# Altium footprint library con-garry.PCBLIB: 24 footprints (part 2 of 2)
Each footprint in its own frame and in the unit in brackets; x right, y up, seen from the top. Pads: shape width x height; smd on the part's side, far side on the other; paste and mask are expansions set on the pad; w line width, h text height; cw(c..) or ccw(c..) is an arc to the next point about the centre after c.
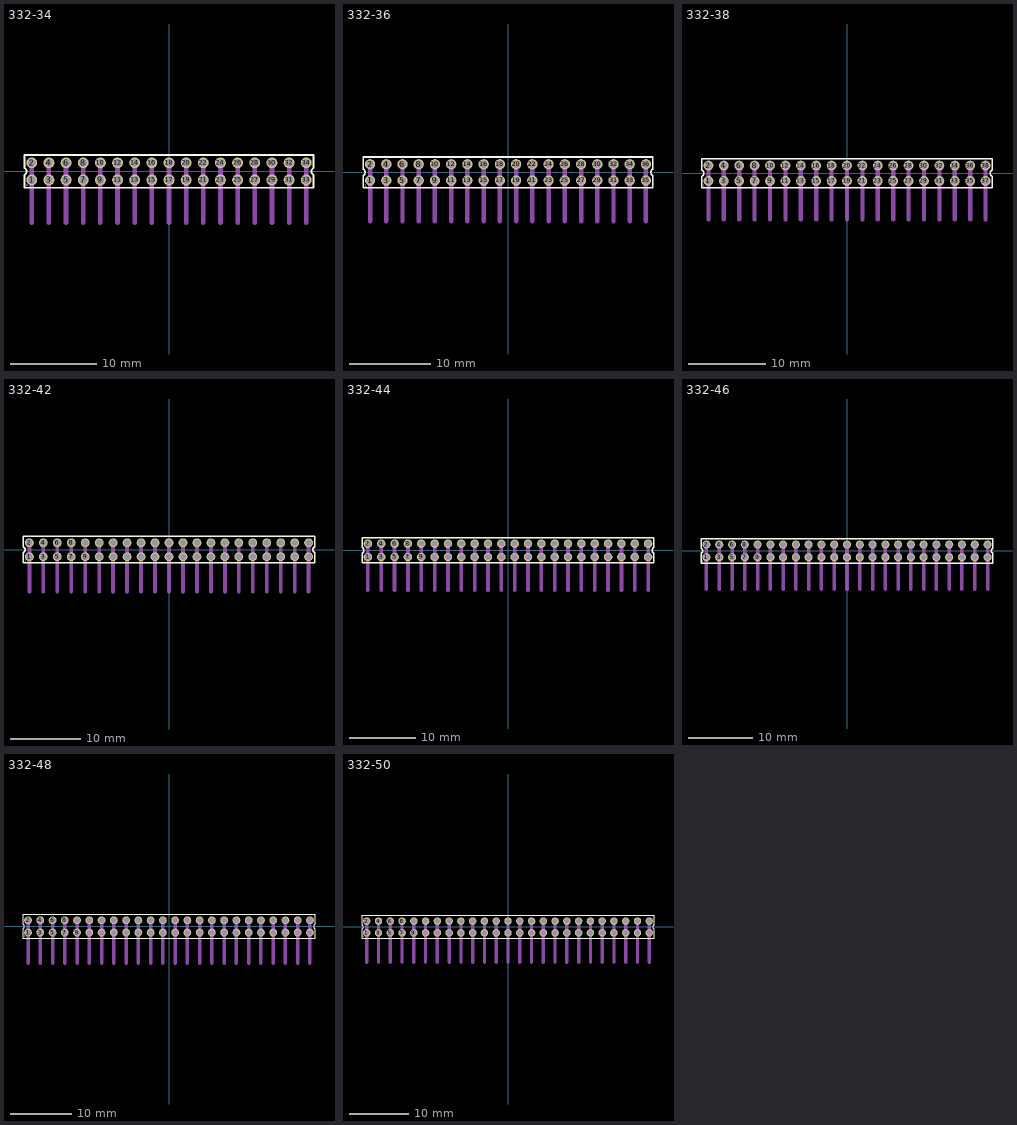
[diagram p1: the footprints below, top view; thin cyan lines are the x and y axes]

## 332-34 [mm]
pads (34):
  round 1.27 hole 0.9: 1(-16,-1) 2(-16,1) 3(-14,-1) 4(-14,1) 5(-12,-1) 6(-12,1) 7(-10,-1) 8(-10,1) 9(-8,-1) 10(-8,1) 11(-6,-1) 12(-6,1) 13(-4,-1) 14(-4,1) 15(-2,-1) 16(-2,1) 17(0,-1) 18(0,1) 19(2,-1) 20(2,1) 21(4,-1) 22(4,1) 23(6,-1) 24(6,1) 25(8,-1) 26(8,1) 27(10,-1) 28(10,1) 29(12,-1) 30(12,1) 31(14,-1) 32(14,1) 33(16,-1) 34(16,1)
Top Overlay:
  lines w0.203: -16.85,-1.9 16.85,-1.9 16.85,-0.4 cw(c17.04,0) 16.85,0.4 16.85,1.9 -16.85,1.9 -16.85,0.4 cw(c-17.04,0) -16.85,-0.4 -16.85,-1.9
  text "1" at -16.65,-1.75 h0.26
Mechanical 16:
  rectangle: -16.25,-1.25 -15.75,-0.75
  rectangle: -16.25,0.75 -15.75,1.25
  rectangle: -14.25,-1.25 -13.75,-0.75
  rectangle: -14.25,0.75 -13.75,1.25
  rectangle: -12.25,-1.25 -11.75,-0.75
  rectangle: -12.25,0.75 -11.75,1.25
  rectangle: -10.25,-1.25 -9.75,-0.75
  rectangle: -10.25,0.75 -9.75,1.25
  rectangle: -8.25,-1.25 -7.75,-0.75
  rectangle: -8.25,0.75 -7.75,1.25
  rectangle: -6.25,-1.25 -5.75,-0.75
  rectangle: -6.25,0.75 -5.75,1.25
  rectangle: -4.25,-1.25 -3.75,-0.75
  rectangle: -4.25,0.75 -3.75,1.25
  rectangle: -2.25,-1.25 -1.75,-0.75
  rectangle: -2.25,0.75 -1.75,1.25
  rectangle: -0.25,-1.25 0.25,-0.75
  rectangle: -0.25,0.75 0.25,1.25
  rectangle: 1.75,-1.25 2.25,-0.75
  rectangle: 1.75,0.75 2.25,1.25
  rectangle: 3.75,-1.25 4.25,-0.75
  rectangle: 3.75,0.75 4.25,1.25
  rectangle: 5.75,-1.25 6.25,-0.75
  rectangle: 5.75,0.75 6.25,1.25
  rectangle: 7.75,-1.25 8.25,-0.75
  rectangle: 7.75,0.75 8.25,1.25
  rectangle: 9.75,-1.25 10.25,-0.75
  rectangle: 9.75,0.75 10.25,1.25
  rectangle: 11.75,-1.25 12.25,-0.75
  rectangle: 11.75,0.75 12.25,1.25
  rectangle: 13.75,-1.25 14.25,-0.75
  rectangle: 13.75,0.75 14.25,1.25
  rectangle: 15.75,-1.25 16.25,-0.75
  rectangle: 15.75,0.75 16.25,1.25
  lines w0.55: -16,-6 -16,1 ; -14,-6 -14,1 ; -12,-6 -12,1 ; -10,-6 -10,1 ; -8,-6 -8,1 ; -6,-6 -6,1 ; -4,-6 -4,1 ; -2,-6 -2,1 ; 0,-6 0,1 ; 2,-6 2,1 ; 4,-6 4,1 ; 6,-6 6,1 ; 8,-6 8,1 ; 10,-6 10,1 ; 12,-6 12,1 ; 14,-6 14,1 ; 16,-6 16,1

## 332-36 [mm]
pads (36):
  round 1.27 hole 0.9: 1(-17,-1) 2(-17,1) 3(-15,-1) 4(-15,1) 5(-13,-1) 6(-13,1) 7(-11,-1) 8(-11,1) 9(-9,-1) 10(-9,1) 11(-7,-1) 12(-7,1) 13(-5,-1) 14(-5,1) 15(-3,-1) 16(-3,1) 17(-1,-1) 18(-1,1) 19(1,-1) 20(1,1) 21(3,-1) 22(3,1) 23(5,-1) 24(5,1) 25(7,-1) 26(7,1) 27(9,-1) 28(9,1) 29(11,-1) 30(11,1) 31(13,-1) 32(13,1) 33(15,-1) 34(15,1) 35(17,-1) 36(17,1)
Top Overlay:
  lines w0.203: -17.85,-1.9 17.85,-1.9 17.85,-0.4 cw(c18.04,0) 17.85,0.4 17.85,1.9 -17.85,1.9 -17.85,0.4 cw(c-18.04,0) -17.85,-0.4 -17.85,-1.9
  text "1" at -17.65,-1.75 h0.26
Mechanical 16:
  rectangle: -17.25,-1.25 -16.75,-0.75
  rectangle: -17.25,0.75 -16.75,1.25
  rectangle: -15.25,-1.25 -14.75,-0.75
  rectangle: -15.25,0.75 -14.75,1.25
  rectangle: -13.25,-1.25 -12.75,-0.75
  rectangle: -13.25,0.75 -12.75,1.25
  rectangle: -11.25,-1.25 -10.75,-0.75
  rectangle: -11.25,0.75 -10.75,1.25
  rectangle: -9.25,-1.25 -8.75,-0.75
  rectangle: -9.25,0.75 -8.75,1.25
  rectangle: -7.25,-1.25 -6.75,-0.75
  rectangle: -7.25,0.75 -6.75,1.25
  rectangle: -5.25,-1.25 -4.75,-0.75
  rectangle: -5.25,0.75 -4.75,1.25
  rectangle: -3.25,-1.25 -2.75,-0.75
  rectangle: -3.25,0.75 -2.75,1.25
  rectangle: -1.25,-1.25 -0.75,-0.75
  rectangle: -1.25,0.75 -0.75,1.25
  rectangle: 0.75,-1.25 1.25,-0.75
  rectangle: 0.75,0.75 1.25,1.25
  rectangle: 2.75,-1.25 3.25,-0.75
  rectangle: 2.75,0.75 3.25,1.25
  rectangle: 4.75,-1.25 5.25,-0.75
  rectangle: 4.75,0.75 5.25,1.25
  rectangle: 6.75,-1.25 7.25,-0.75
  rectangle: 6.75,0.75 7.25,1.25
  rectangle: 8.75,-1.25 9.25,-0.75
  rectangle: 8.75,0.75 9.25,1.25
  rectangle: 10.75,-1.25 11.25,-0.75
  rectangle: 10.75,0.75 11.25,1.25
  rectangle: 12.75,-1.25 13.25,-0.75
  rectangle: 12.75,0.75 13.25,1.25
  rectangle: 14.75,-1.25 15.25,-0.75
  rectangle: 14.75,0.75 15.25,1.25
  rectangle: 16.75,-1.25 17.25,-0.75
  rectangle: 16.75,0.75 17.25,1.25
  lines w0.55: -17,-6 -17,1 ; -15,-6 -15,1 ; -13,-6 -13,1 ; -11,-6 -11,1 ; -9,-6 -9,1 ; -7,-6 -7,1 ; -5,-6 -5,1 ; -3,-6 -3,1 ; -1,-6 -1,1 ; 1,-6 1,1 ; 3,-6 3,1 ; 5,-6 5,1 ; 7,-6 7,1 ; 9,-6 9,1 ; 11,-6 11,1 ; 13,-6 13,1 ; 15,-6 15,1 ; 17,-6 17,1

## 332-38 [mm]
pads (38):
  round 1.27 hole 0.9: 1(-18,-1) 2(-18,1) 3(-16,-1) 4(-16,1) 5(-14,-1) 6(-14,1) 7(-12,-1) 8(-12,1) 9(-10,-1) 10(-10,1) 11(-8,-1) 12(-8,1) 13(-6,-1) 14(-6,1) 15(-4,-1) 16(-4,1) 17(-2,-1) 18(-2,1) 19(0,-1) 20(0,1) 21(2,-1) 22(2,1) 23(4,-1) 24(4,1) 25(6,-1) 26(6,1) 27(8,-1) 28(8,1) 29(10,-1) 30(10,1) 31(12,-1) 32(12,1) 33(14,-1) 34(14,1) 35(16,-1) 36(16,1) 37(18,-1) 38(18,1)
Top Overlay:
  lines w0.203: -18.85,-1.9 18.85,-1.9 18.85,-0.4 cw(c19.04,0) 18.85,0.4 18.85,1.9 -18.85,1.9 -18.85,0.4 cw(c-19.04,0) -18.85,-0.4 -18.85,-1.9
  text "1" at -18.65,-1.75 h0.26
Mechanical 16:
  rectangle: -18.25,-1.25 -17.75,-0.75
  rectangle: -18.25,0.75 -17.75,1.25
  rectangle: -16.25,-1.25 -15.75,-0.75
  rectangle: -16.25,0.75 -15.75,1.25
  rectangle: -14.25,-1.25 -13.75,-0.75
  rectangle: -14.25,0.75 -13.75,1.25
  rectangle: -12.25,-1.25 -11.75,-0.75
  rectangle: -12.25,0.75 -11.75,1.25
  rectangle: -10.25,-1.25 -9.75,-0.75
  rectangle: -10.25,0.75 -9.75,1.25
  rectangle: -8.25,-1.25 -7.75,-0.75
  rectangle: -8.25,0.75 -7.75,1.25
  rectangle: -6.25,-1.25 -5.75,-0.75
  rectangle: -6.25,0.75 -5.75,1.25
  rectangle: -4.25,-1.25 -3.75,-0.75
  rectangle: -4.25,0.75 -3.75,1.25
  rectangle: -2.25,-1.25 -1.75,-0.75
  rectangle: -2.25,0.75 -1.75,1.25
  rectangle: -0.25,-1.25 0.25,-0.75
  rectangle: -0.25,0.75 0.25,1.25
  rectangle: 1.75,-1.25 2.25,-0.75
  rectangle: 1.75,0.75 2.25,1.25
  rectangle: 3.75,-1.25 4.25,-0.75
  rectangle: 3.75,0.75 4.25,1.25
  rectangle: 5.75,-1.25 6.25,-0.75
  rectangle: 5.75,0.75 6.25,1.25
  rectangle: 7.75,-1.25 8.25,-0.75
  rectangle: 7.75,0.75 8.25,1.25
  rectangle: 9.75,-1.25 10.25,-0.75
  rectangle: 9.75,0.75 10.25,1.25
  rectangle: 11.75,-1.25 12.25,-0.75
  rectangle: 11.75,0.75 12.25,1.25
  rectangle: 13.75,-1.25 14.25,-0.75
  rectangle: 13.75,0.75 14.25,1.25
  rectangle: 15.75,-1.25 16.25,-0.75
  rectangle: 15.75,0.75 16.25,1.25
  rectangle: 17.75,-1.25 18.25,-0.75
  rectangle: 17.75,0.75 18.25,1.25
  lines w0.55: -18,-6 -18,1 ; -16,-6 -16,1 ; -14,-6 -14,1 ; -12,-6 -12,1 ; -10,-6 -10,1 ; -8,-6 -8,1 ; -6,-6 -6,1 ; -4,-6 -4,1 ; -2,-6 -2,1 ; 0,-6 0,1 ; 2,-6 2,1 ; 4,-6 4,1 ; 6,-6 6,1 ; 8,-6 8,1 ; 10,-6 10,1 ; 12,-6 12,1 ; 14,-6 14,1 ; 16,-6 16,1 ; 18,-6 18,1

## 332-42 [mm]
pads (42):
  round 1.27 hole 0.9: 1(-20,-1) 2(-20,1) 3(-18,-1) 4(-18,1) 5(-16,-1) 6(-16,1) 7(-14,-1) 8(-14,1) 9(-12,-1) 10(-12,1) 11(-10,-1) 12(-10,1) 13(-8,-1) 14(-8,1) 15(-6,-1) 16(-6,1) 17(-4,-1) 18(-4,1) 19(-2,-1) 20(-2,1) 21(0,-1) 22(0,1) 23(2,-1) 24(2,1) 25(4,-1) 26(4,1) 27(6,-1) 28(6,1) 29(8,-1) 30(8,1) 31(10,-1) 32(10,1) 33(12,-1) 34(12,1) 35(14,-1) 36(14,1) 37(16,-1) 38(16,1) 39(18,-1) 40(18,1) 41(20,-1) 42(20,1)
Top Overlay:
  lines w0.203: -20.85,-1.9 20.85,-1.9 20.85,-0.4 cw(c21.04,0) 20.85,0.4 20.85,1.9 -20.85,1.9 -20.85,0.4 cw(c-21.04,0) -20.85,-0.4 -20.85,-1.9
  text "1" at -20.65,-1.75 h0.26
Mechanical 16:
  rectangle: -20.25,-1.25 -19.75,-0.75
  rectangle: -20.25,0.75 -19.75,1.25
  rectangle: -18.25,-1.25 -17.75,-0.75
  rectangle: -18.25,0.75 -17.75,1.25
  rectangle: -16.25,-1.25 -15.75,-0.75
  rectangle: -16.25,0.75 -15.75,1.25
  rectangle: -14.25,-1.25 -13.75,-0.75
  rectangle: -14.25,0.75 -13.75,1.25
  rectangle: -12.25,-1.25 -11.75,-0.75
  rectangle: -12.25,0.75 -11.75,1.25
  rectangle: -10.25,-1.25 -9.75,-0.75
  rectangle: -10.25,0.75 -9.75,1.25
  rectangle: -8.25,-1.25 -7.75,-0.75
  rectangle: -8.25,0.75 -7.75,1.25
  rectangle: -6.25,-1.25 -5.75,-0.75
  rectangle: -6.25,0.75 -5.75,1.25
  rectangle: -4.25,-1.25 -3.75,-0.75
  rectangle: -4.25,0.75 -3.75,1.25
  rectangle: -2.25,-1.25 -1.75,-0.75
  rectangle: -2.25,0.75 -1.75,1.25
  rectangle: -0.25,-1.25 0.25,-0.75
  rectangle: -0.25,0.75 0.25,1.25
  rectangle: 1.75,-1.25 2.25,-0.75
  rectangle: 1.75,0.75 2.25,1.25
  rectangle: 3.75,-1.25 4.25,-0.75
  rectangle: 3.75,0.75 4.25,1.25
  rectangle: 5.75,-1.25 6.25,-0.75
  rectangle: 5.75,0.75 6.25,1.25
  rectangle: 7.75,-1.25 8.25,-0.75
  rectangle: 7.75,0.75 8.25,1.25
  rectangle: 9.75,-1.25 10.25,-0.75
  rectangle: 9.75,0.75 10.25,1.25
  rectangle: 11.75,-1.25 12.25,-0.75
  rectangle: 11.75,0.75 12.25,1.25
  rectangle: 13.75,-1.25 14.25,-0.75
  rectangle: 13.75,0.75 14.25,1.25
  rectangle: 15.75,-1.25 16.25,-0.75
  rectangle: 15.75,0.75 16.25,1.25
  rectangle: 17.75,-1.25 18.25,-0.75
  rectangle: 17.75,0.75 18.25,1.25
  rectangle: 19.75,-1.25 20.25,-0.75
  rectangle: 19.75,0.75 20.25,1.25
  lines w0.55: -20,-6 -20,1 ; -18,-6 -18,1 ; -16,-6 -16,1 ; -14,-6 -14,1 ; -12,-6 -12,1 ; -10,-6 -10,1 ; -8,-6 -8,1 ; -6,-6 -6,1 ; -4,-6 -4,1 ; -2,-6 -2,1 ; 0,-6 0,1 ; 2,-6 2,1 ; 4,-6 4,1 ; 6,-6 6,1 ; 8,-6 8,1 ; 10,-6 10,1 ; 12,-6 12,1 ; 14,-6 14,1 ; 16,-6 16,1 ; 18,-6 18,1 ; 20,-6 20,1

## 332-44 [mm]
pads (44):
  round 1.27 hole 0.9: 1(-21,-1) 2(-21,1) 3(-19,-1) 4(-19,1) 5(-17,-1) 6(-17,1) 7(-15,-1) 8(-15,1) 9(-13,-1) 10(-13,1) 11(-11,-1) 12(-11,1) 13(-9,-1) 14(-9,1) 15(-7,-1) 16(-7,1) 17(-5,-1) 18(-5,1) 19(-3,-1) 20(-3,1) 21(-1,-1) 22(-1,1) 23(1,-1) 24(1,1) 25(3,-1) 26(3,1) 27(5,-1) 28(5,1) 29(7,-1) 30(7,1) 31(9,-1) 32(9,1) 33(11,-1) 34(11,1) 35(13,-1) 36(13,1) 37(15,-1) 38(15,1) 39(17,-1) 40(17,1) 41(19,-1) 42(19,1) 43(21,-1) 44(21,1)
Top Overlay:
  lines w0.203: -21.85,-1.9 21.85,-1.9 21.85,-0.4 cw(c22.04,0) 21.85,0.4 21.85,1.9 -21.85,1.9 -21.85,0.4 cw(c-22.04,0) -21.85,-0.4 -21.85,-1.9
  text "1" at -21.65,-1.75 h0.26
Mechanical 16:
  rectangle: -21.25,-1.25 -20.75,-0.75
  rectangle: -21.25,0.75 -20.75,1.25
  rectangle: -19.25,-1.25 -18.75,-0.75
  rectangle: -19.25,0.75 -18.75,1.25
  rectangle: -17.25,-1.25 -16.75,-0.75
  rectangle: -17.25,0.75 -16.75,1.25
  rectangle: -15.25,-1.25 -14.75,-0.75
  rectangle: -15.25,0.75 -14.75,1.25
  rectangle: -13.25,-1.25 -12.75,-0.75
  rectangle: -13.25,0.75 -12.75,1.25
  rectangle: -11.25,-1.25 -10.75,-0.75
  rectangle: -11.25,0.75 -10.75,1.25
  rectangle: -9.25,-1.25 -8.75,-0.75
  rectangle: -9.25,0.75 -8.75,1.25
  rectangle: -7.25,-1.25 -6.75,-0.75
  rectangle: -7.25,0.75 -6.75,1.25
  rectangle: -5.25,-1.25 -4.75,-0.75
  rectangle: -5.25,0.75 -4.75,1.25
  rectangle: -3.25,-1.25 -2.75,-0.75
  rectangle: -3.25,0.75 -2.75,1.25
  rectangle: -1.25,-1.25 -0.75,-0.75
  rectangle: -1.25,0.75 -0.75,1.25
  rectangle: 0.75,-1.25 1.25,-0.75
  rectangle: 0.75,0.75 1.25,1.25
  rectangle: 2.75,-1.25 3.25,-0.75
  rectangle: 2.75,0.75 3.25,1.25
  rectangle: 4.75,-1.25 5.25,-0.75
  rectangle: 4.75,0.75 5.25,1.25
  rectangle: 6.75,-1.25 7.25,-0.75
  rectangle: 6.75,0.75 7.25,1.25
  rectangle: 8.75,-1.25 9.25,-0.75
  rectangle: 8.75,0.75 9.25,1.25
  rectangle: 10.75,-1.25 11.25,-0.75
  rectangle: 10.75,0.75 11.25,1.25
  rectangle: 12.75,-1.25 13.25,-0.75
  rectangle: 12.75,0.75 13.25,1.25
  rectangle: 14.75,-1.25 15.25,-0.75
  rectangle: 14.75,0.75 15.25,1.25
  rectangle: 16.75,-1.25 17.25,-0.75
  rectangle: 16.75,0.75 17.25,1.25
  rectangle: 18.75,-1.25 19.25,-0.75
  rectangle: 18.75,0.75 19.25,1.25
  rectangle: 20.75,-1.25 21.25,-0.75
  rectangle: 20.75,0.75 21.25,1.25
  lines w0.55: -21,-6 -21,1 ; -19,-6 -19,1 ; -17,-6 -17,1 ; -15,-6 -15,1 ; -13,-6 -13,1 ; -11,-6 -11,1 ; -9,-6 -9,1 ; -7,-6 -7,1 ; -5,-6 -5,1 ; -3,-6 -3,1 ; -1,-6 -1,1 ; 1,-6 1,1 ; 3,-6 3,1 ; 5,-6 5,1 ; 7,-6 7,1 ; 9,-6 9,1 ; 11,-6 11,1 ; 13,-6 13,1 ; 15,-6 15,1 ; 17,-6 17,1 ; 19,-6 19,1 ; 21,-6 21,1

## 332-46 [mm]
pads (46):
  round 1.27 hole 0.9: 1(-22,-1) 2(-22,1) 3(-20,-1) 4(-20,1) 5(-18,-1) 6(-18,1) 7(-16,-1) 8(-16,1) 9(-14,-1) 10(-14,1) 11(-12,-1) 12(-12,1) 13(-10,-1) 14(-10,1) 15(-8,-1) 16(-8,1) 17(-6,-1) 18(-6,1) 19(-4,-1) 20(-4,1) 21(-2,-1) 22(-2,1) 23(0,-1) 24(0,1) 25(2,-1) 26(2,1) 27(4,-1) 28(4,1) 29(6,-1) 30(6,1) 31(8,-1) 32(8,1) 33(10,-1) 34(10,1) 35(12,-1) 36(12,1) 37(14,-1) 38(14,1) 39(16,-1) 40(16,1) 41(18,-1) 42(18,1) 43(20,-1) 44(20,1) 45(22,-1) 46(22,1)
Top Overlay:
  lines w0.203: -22.85,-1.9 22.85,-1.9 22.85,-0.4 cw(c23.04,0) 22.85,0.4 22.85,1.9 -22.85,1.9 -22.85,0.4 cw(c-23.04,0) -22.85,-0.4 -22.85,-1.9
  text "1" at -22.65,-1.75 h0.26
Mechanical 16:
  rectangle: -22.25,-1.25 -21.75,-0.75
  rectangle: -22.25,0.75 -21.75,1.25
  rectangle: -20.25,-1.25 -19.75,-0.75
  rectangle: -20.25,0.75 -19.75,1.25
  rectangle: -18.25,-1.25 -17.75,-0.75
  rectangle: -18.25,0.75 -17.75,1.25
  rectangle: -16.25,-1.25 -15.75,-0.75
  rectangle: -16.25,0.75 -15.75,1.25
  rectangle: -14.25,-1.25 -13.75,-0.75
  rectangle: -14.25,0.75 -13.75,1.25
  rectangle: -12.25,-1.25 -11.75,-0.75
  rectangle: -12.25,0.75 -11.75,1.25
  rectangle: -10.25,-1.25 -9.75,-0.75
  rectangle: -10.25,0.75 -9.75,1.25
  rectangle: -8.25,-1.25 -7.75,-0.75
  rectangle: -8.25,0.75 -7.75,1.25
  rectangle: -6.25,-1.25 -5.75,-0.75
  rectangle: -6.25,0.75 -5.75,1.25
  rectangle: -4.25,-1.25 -3.75,-0.75
  rectangle: -4.25,0.75 -3.75,1.25
  rectangle: -2.25,-1.25 -1.75,-0.75
  rectangle: -2.25,0.75 -1.75,1.25
  rectangle: -0.25,-1.25 0.25,-0.75
  rectangle: -0.25,0.75 0.25,1.25
  rectangle: 1.75,-1.25 2.25,-0.75
  rectangle: 1.75,0.75 2.25,1.25
  rectangle: 3.75,-1.25 4.25,-0.75
  rectangle: 3.75,0.75 4.25,1.25
  rectangle: 5.75,-1.25 6.25,-0.75
  rectangle: 5.75,0.75 6.25,1.25
  rectangle: 7.75,-1.25 8.25,-0.75
  rectangle: 7.75,0.75 8.25,1.25
  rectangle: 9.75,-1.25 10.25,-0.75
  rectangle: 9.75,0.75 10.25,1.25
  rectangle: 11.75,-1.25 12.25,-0.75
  rectangle: 11.75,0.75 12.25,1.25
  rectangle: 13.75,-1.25 14.25,-0.75
  rectangle: 13.75,0.75 14.25,1.25
  rectangle: 15.75,-1.25 16.25,-0.75
  rectangle: 15.75,0.75 16.25,1.25
  rectangle: 17.75,-1.25 18.25,-0.75
  rectangle: 17.75,0.75 18.25,1.25
  rectangle: 19.75,-1.25 20.25,-0.75
  rectangle: 19.75,0.75 20.25,1.25
  rectangle: 21.75,-1.25 22.25,-0.75
  rectangle: 21.75,0.75 22.25,1.25
  lines w0.55: -22,-6 -22,1 ; -20,-6 -20,1 ; -18,-6 -18,1 ; -16,-6 -16,1 ; -14,-6 -14,1 ; -12,-6 -12,1 ; -10,-6 -10,1 ; -8,-6 -8,1 ; -6,-6 -6,1 ; -4,-6 -4,1 ; -2,-6 -2,1 ; 0,-6 0,1 ; 2,-6 2,1 ; 4,-6 4,1 ; 6,-6 6,1 ; 8,-6 8,1 ; 10,-6 10,1 ; 12,-6 12,1 ; 14,-6 14,1 ; 16,-6 16,1 ; 18,-6 18,1 ; 20,-6 20,1 ; 22,-6 22,1

## 332-48 [mm]
pads (48):
  round 1.27 hole 0.9: 1(-23,-1) 2(-23,1) 3(-21,-1) 4(-21,1) 5(-19,-1) 6(-19,1) 7(-17,-1) 8(-17,1) 9(-15,-1) 10(-15,1) 11(-13,-1) 12(-13,1) 13(-11,-1) 14(-11,1) 15(-9,-1) 16(-9,1) 17(-7,-1) 18(-7,1) 19(-5,-1) 20(-5,1) 21(-3,-1) 22(-3,1) 23(-1,-1) 24(-1,1) 25(1,-1) 26(1,1) 27(3,-1) 28(3,1) 29(5,-1) 30(5,1) 31(7,-1) 32(7,1) 33(9,-1) 34(9,1) 35(11,-1) 36(11,1) 37(13,-1) 38(13,1) 39(15,-1) 40(15,1) 41(17,-1) 42(17,1) 43(19,-1) 44(19,1) 45(21,-1) 46(21,1) 47(23,-1) 48(23,1)
Top Overlay:
  lines w0.203: -23.85,-1.9 23.85,-1.9 23.85,-0.4 cw(c24.04,0) 23.85,0.4 23.85,1.9 -23.85,1.9 -23.85,0.4 cw(c-24.04,0) -23.85,-0.4 -23.85,-1.9
  text "1" at -23.65,-1.75 h0.26
Mechanical 16:
  rectangle: -23.25,-1.25 -22.75,-0.75
  rectangle: -23.25,0.75 -22.75,1.25
  rectangle: -21.25,-1.25 -20.75,-0.75
  rectangle: -21.25,0.75 -20.75,1.25
  rectangle: -19.25,-1.25 -18.75,-0.75
  rectangle: -19.25,0.75 -18.75,1.25
  rectangle: -17.25,-1.25 -16.75,-0.75
  rectangle: -17.25,0.75 -16.75,1.25
  rectangle: -15.25,-1.25 -14.75,-0.75
  rectangle: -15.25,0.75 -14.75,1.25
  rectangle: -13.25,-1.25 -12.75,-0.75
  rectangle: -13.25,0.75 -12.75,1.25
  rectangle: -11.25,-1.25 -10.75,-0.75
  rectangle: -11.25,0.75 -10.75,1.25
  rectangle: -9.25,-1.25 -8.75,-0.75
  rectangle: -9.25,0.75 -8.75,1.25
  rectangle: -7.25,-1.25 -6.75,-0.75
  rectangle: -7.25,0.75 -6.75,1.25
  rectangle: -5.25,-1.25 -4.75,-0.75
  rectangle: -5.25,0.75 -4.75,1.25
  rectangle: -3.25,-1.25 -2.75,-0.75
  rectangle: -3.25,0.75 -2.75,1.25
  rectangle: -1.25,-1.25 -0.75,-0.75
  rectangle: -1.25,0.75 -0.75,1.25
  rectangle: 0.75,-1.25 1.25,-0.75
  rectangle: 0.75,0.75 1.25,1.25
  rectangle: 2.75,-1.25 3.25,-0.75
  rectangle: 2.75,0.75 3.25,1.25
  rectangle: 4.75,-1.25 5.25,-0.75
  rectangle: 4.75,0.75 5.25,1.25
  rectangle: 6.75,-1.25 7.25,-0.75
  rectangle: 6.75,0.75 7.25,1.25
  rectangle: 8.75,-1.25 9.25,-0.75
  rectangle: 8.75,0.75 9.25,1.25
  rectangle: 10.75,-1.25 11.25,-0.75
  rectangle: 10.75,0.75 11.25,1.25
  rectangle: 12.75,-1.25 13.25,-0.75
  rectangle: 12.75,0.75 13.25,1.25
  rectangle: 14.75,-1.25 15.25,-0.75
  rectangle: 14.75,0.75 15.25,1.25
  rectangle: 16.75,-1.25 17.25,-0.75
  rectangle: 16.75,0.75 17.25,1.25
  rectangle: 18.75,-1.25 19.25,-0.75
  rectangle: 18.75,0.75 19.25,1.25
  rectangle: 20.75,-1.25 21.25,-0.75
  rectangle: 20.75,0.75 21.25,1.25
  rectangle: 22.75,-1.25 23.25,-0.75
  rectangle: 22.75,0.75 23.25,1.25
  lines w0.55: -23,-6 -23,1 ; -21,-6 -21,1 ; -19,-6 -19,1 ; -17,-6 -17,1 ; -15,-6 -15,1 ; -13,-6 -13,1 ; -11,-6 -11,1 ; -9,-6 -9,1 ; -7,-6 -7,1 ; -5,-6 -5,1 ; -3,-6 -3,1 ; -1,-6 -1,1 ; 1,-6 1,1 ; 3,-6 3,1 ; 5,-6 5,1 ; 7,-6 7,1 ; 9,-6 9,1 ; 11,-6 11,1 ; 13,-6 13,1 ; 15,-6 15,1 ; 17,-6 17,1 ; 19,-6 19,1 ; 21,-6 21,1 ; 23,-6 23,1

## 332-50 [mm]
pads (50):
  round 1.27 hole 0.9: 1(-24,-1) 2(-24,1) 3(-22,-1) 4(-22,1) 5(-20,-1) 6(-20,1) 7(-18,-1) 8(-18,1) 9(-16,-1) 10(-16,1) 11(-14,-1) 12(-14,1) 13(-12,-1) 14(-12,1) 15(-10,-1) 16(-10,1) 17(-8,-1) 18(-8,1) 19(-6,-1) 20(-6,1) 21(-4,-1) 22(-4,1) 23(-2,-1) 24(-2,1) 25(0,-1) 26(0,1) 27(2,-1) 28(2,1) 29(4,-1) 30(4,1) 31(6,-1) 32(6,1) 33(8,-1) 34(8,1) 35(10,-1) 36(10,1) 37(12,-1) 38(12,1) 39(14,-1) 40(14,1) 41(16,-1) 42(16,1) 43(18,-1) 44(18,1) 45(20,-1) 46(20,1) 47(22,-1) 48(22,1) 49(24,-1) 50(24,1)
Top Overlay:
  lines w0.203: -24.85,-1.9 24.85,-1.9 24.85,-0.4 cw(c25.04,0) 24.85,0.4 24.85,1.9 -24.85,1.9 -24.85,0.4 cw(c-25.04,0) -24.85,-0.4 -24.85,-1.9
  text "1" at -24.65,-1.75 h0.26
Mechanical 16:
  rectangle: -24.25,-1.25 -23.75,-0.75
  rectangle: -24.25,0.75 -23.75,1.25
  rectangle: -22.25,-1.25 -21.75,-0.75
  rectangle: -22.25,0.75 -21.75,1.25
  rectangle: -20.25,-1.25 -19.75,-0.75
  rectangle: -20.25,0.75 -19.75,1.25
  rectangle: -18.25,-1.25 -17.75,-0.75
  rectangle: -18.25,0.75 -17.75,1.25
  rectangle: -16.25,-1.25 -15.75,-0.75
  rectangle: -16.25,0.75 -15.75,1.25
  rectangle: -14.25,-1.25 -13.75,-0.75
  rectangle: -14.25,0.75 -13.75,1.25
  rectangle: -12.25,-1.25 -11.75,-0.75
  rectangle: -12.25,0.75 -11.75,1.25
  rectangle: -10.25,-1.25 -9.75,-0.75
  rectangle: -10.25,0.75 -9.75,1.25
  rectangle: -8.25,-1.25 -7.75,-0.75
  rectangle: -8.25,0.75 -7.75,1.25
  rectangle: -6.25,-1.25 -5.75,-0.75
  rectangle: -6.25,0.75 -5.75,1.25
  rectangle: -4.25,-1.25 -3.75,-0.75
  rectangle: -4.25,0.75 -3.75,1.25
  rectangle: -2.25,-1.25 -1.75,-0.75
  rectangle: -2.25,0.75 -1.75,1.25
  rectangle: -0.25,-1.25 0.25,-0.75
  rectangle: -0.25,0.75 0.25,1.25
  rectangle: 1.75,-1.25 2.25,-0.75
  rectangle: 1.75,0.75 2.25,1.25
  rectangle: 3.75,-1.25 4.25,-0.75
  rectangle: 3.75,0.75 4.25,1.25
  rectangle: 5.75,-1.25 6.25,-0.75
  rectangle: 5.75,0.75 6.25,1.25
  rectangle: 7.75,-1.25 8.25,-0.75
  rectangle: 7.75,0.75 8.25,1.25
  rectangle: 9.75,-1.25 10.25,-0.75
  rectangle: 9.75,0.75 10.25,1.25
  rectangle: 11.75,-1.25 12.25,-0.75
  rectangle: 11.75,0.75 12.25,1.25
  rectangle: 13.75,-1.25 14.25,-0.75
  rectangle: 13.75,0.75 14.25,1.25
  rectangle: 15.75,-1.25 16.25,-0.75
  rectangle: 15.75,0.75 16.25,1.25
  rectangle: 17.75,-1.25 18.25,-0.75
  rectangle: 17.75,0.75 18.25,1.25
  rectangle: 19.75,-1.25 20.25,-0.75
  rectangle: 19.75,0.75 20.25,1.25
  rectangle: 21.75,-1.25 22.25,-0.75
  rectangle: 21.75,0.75 22.25,1.25
  rectangle: 23.75,-1.25 24.25,-0.75
  rectangle: 23.75,0.75 24.25,1.25
  lines w0.55: -24,-6 -24,1 ; -22,-6 -22,1 ; -20,-6 -20,1 ; -18,-6 -18,1 ; -16,-6 -16,1 ; -14,-6 -14,1 ; -12,-6 -12,1 ; -10,-6 -10,1 ; -8,-6 -8,1 ; -6,-6 -6,1 ; -4,-6 -4,1 ; -2,-6 -2,1 ; 0,-6 0,1 ; 2,-6 2,1 ; 4,-6 4,1 ; 6,-6 6,1 ; 8,-6 8,1 ; 10,-6 10,1 ; 12,-6 12,1 ; 14,-6 14,1 ; 16,-6 16,1 ; 18,-6 18,1 ; 20,-6 20,1 ; 22,-6 22,1 ; 24,-6 24,1